# EAGLE library part MCP7940N-I/SN (library Microchip-MCP7940N-I_SN)
I2C™ Real-Time Clock/Calendar with SRAM,SOIC-8
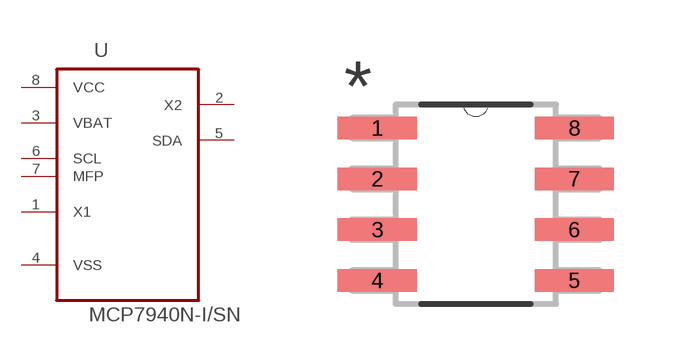
[diagram p0: symbol with the pads of SOIC127P600X175-8N; footprint SOIC127P600X175-8N]

Designator prefix U

## MCP7940N-I/SN (MPN: MCP7940N-I/SN; OC_FARNELL: 2361122; OC_NEWARK: 26T2748; PACKAGE: SOIC-8; SUPPLIER: MICROCHIP)  [SOIC127P600X175-8N]
1  X1  in
2  X2  out
3  VBAT  pwr
4  VSS  pwr
5  SDA
6  SCL  in
7  MFP  in
8  VCC  pwr

## Footprint SOIC127P600X175-8N (pad centres in mm)
smd 1.981 x 0.559: 1 -2.464,1.905; 2 -2.464,0.635; 3 -2.464,-0.635; 4 -2.464,-1.905; 5 2.464,-1.905; 6 2.464,-0.635; 7 2.464,0.635; 8 2.464,1.905